# Altium integrated library RFOUT DaughterBoard.IntLib: 20 symbols
Pins are listed as number, name and electrical type; pins without a type are passive.

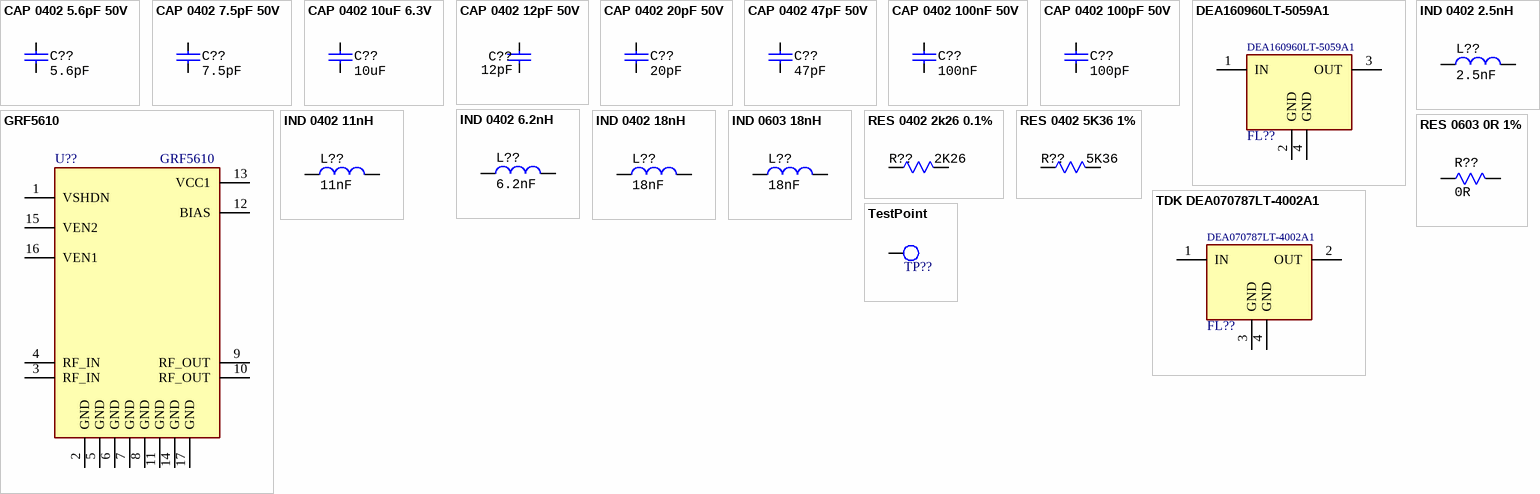
[diagram p0: symbols CAP 0402 5.6pF 50V to TestPoint]

## CAP 0402 5.6pF 50V
designator C??, comment 5.6pF
CAP CER 5.6pF 50V C0G 0402; Manufacturer: muRata; Manufacturer Part Number: GJM1555C1H5R6BB01D; Voltage Rating: 50V; Supplier: LCSC; Supplier Part Number: C161329; Capacitance: 5.6pF
footprint CAP Ceramic SMD 0402
pins: 1, 2

## CAP 0402 7.5pF 50V
designator C??, comment 7.5pF
CAP CER 7.5pF 50V C0G 0402; Manufacturer: muRata; Manufacturer Part Number: GJM1555C1H7R5BB01D; Tolerance: 0.1 pF; Voltage Rating: 50V; Supplier: LCSC; Supplier Part Number: C497526; Capacitance: 7.5pF
footprint CAP Ceramic SMD 0402
pins: 1, 2

## CAP 0402 10uF 6.3V
designator C??, comment 10uF
CAP CER 10uF 6.3V X6S; Manufacturer: muRata; Manufacturer Part Number: GRT155C80J106ME13D; Tolerance: 20%; Voltage Rating: 6.3V; Supplier: LCSC; Supplier Part Number: C20044558; Capacitance: 10uF
footprint CAP Ceramic SMD 0402
pins: 1, 2

## CAP 0402 12pF 50V
designator C??, comment 12pF
CAP CER 12pF 50V C0G 0402; Manufacturer: muRata; Manufacturer Part Number: GJM1555C1H120FB01D; Tolerance: 2%; Voltage Rating: 50V; Supplier: LCSC; Supplier Part Number: C161304; Capacitance: 12pF
footprint CAP Ceramic SMD 0402
pins: 1, 2

## CAP 0402 20pF 50V
designator C??, comment 20pF
CAP CER 20pF 50V C0G 0402; Manufacturer: muRata; Manufacturer Part Number: GJM1555C1H200GB01D; Tolerance: 2%; Voltage Rating: 6.3V; Supplier: LCSC; Supplier Part Number: C882568; Capacitance: 20pF
footprint CAP Ceramic SMD 0402
pins: 1, 2

## CAP 0402 47pF 50V
designator C??, comment 47pF
CAP CER 47pF 50V C0G 0402; Manufacturer: muRata; Manufacturer Part Number: GJM1555C1H470GB01D; Tolerance: 2%; Voltage Rating: 50V; Supplier: LCSC; Supplier Part Number: C3843411; Capacitance: 47pF
footprint CAP Ceramic SMD 0402
pins: 1, 2

## CAP 0402 100nF 50V
designator C??, comment 100nF
CAP CER 100nF 50V X7R 0402; Manufacturer: muRata; Manufacturer Part Number: GCM155R71H104KE02D; Tolerance: 10%; Voltage Rating: 50V; Supplier: LCSC; Supplier Part Number: C85858; Capacitance: 100nF
footprint CAP Ceramic SMD 0402
pins: 1, 2

## CAP 0402 100pF 50V
designator C??, comment 100pF
CAP CER 100pF 50V C0G 0402; Manufacturer: muRata; Manufacturer Part Number: GRM1555C1H101JA01D; Tolerance: 5%; Voltage Rating: 50V; Supplier: LCSC; Supplier Part Number: C77177; Capacitance: 100pF
footprint CAP Ceramic SMD 0402
pins: 1, 2

## DEA160960LT-5059A1
designator FL??
Multilayer Low Pass Filter For 698 - 960 MHz; Manufacturer: TDK; Manufacturer Part Number: DEA160960LT-5059A1; Supplier: LCSC; Supplier Part Number: C695578
footprint DEA160960LT-5059A1
pins: 1 IN, 2 GND, 3 OUT, 4 GND

## GRF5610
designator U??
The GRF5610 is a high gain, two-stage InGaP HBT power amplifier designed to deliver excellent P1dB, ACLR and IM3 performance over the 860 to 928 MHz band. Its exceptional native linearity makes it an ideal choice for transmitter applications that typically do not employ digital predistortion correction schemes.; Manufacture: Guerrilla RF; Supplier Part Number: *; Manufacture Part Number: GRF5610; Supplier: *
footprint QFN50P300X300X80-17N
pins: 1 VSHDN, 2 GND, 3 RF_IN, 4 RF_IN, 5 GND, 6 GND, 7 GND, 8 GND, 9 RF_OUT, 10 RF_OUT, 11 GND, 12 BIAS, 13 VCC1, 14 GND, 15 VEN2, 16 VEN1, 17 GND

## IND 0402 2.5nH
designator L??, comment 2.5nF
FIXED IND 2.5nH 2.1A 30mΩ 0402; Manufacturer: muRata; Manufacturer Part Number: LQW15AN2N5G80D; Supplier: LCSC; Supplier Part Number: C412267
footprint IND SMD 0402
pins: 1, 2

## IND 0402 6.2nH
designator L??, comment 6.2nF
FIXED IND 6.2nH 700mA 90mΩ 0402; Manufacturer: muRata; Manufacturer Part Number: LQW15AN6N2C00D; Supplier: LCSC; Supplier Part Number: C113118
footprint IND SMD 0402
pins: 1, 2

## IND 0402 11nH
designator L??, comment 11nF
FIXED IND 11nH 1.4A 83mΩ 0402; Manufacturer: muRata; Manufacturer Part Number: LQW15AN11NG8ZD; Supplier: LCSC; Supplier Part Number: C2044108
footprint IND SMD 0402
pins: 1, 2

## IND 0402 18nH
designator L??, comment 18nF
900mA 18nH ±5% 120mΩ Wire-wound chip inductor 0402 Fixed Inductors RoHS; Manufacturer: Coilcraft; Manufacturer Part Number: 0402HP-18NXJRW; Supplier: LCSC; Supplier Part Number: C39084920
footprint IND SMD 0402HP
pins: 1, 2

## IND 0603 18nH
designator L??, comment 18nF
FIXED IND 18nH 1.4A 75mΩ 0603; Manufacturer: muRata; Manufacturer Part Number: LQW18AN18NG8ZD; Supplier: LCSC; Supplier Part Number: C1329352
footprint IND SMD 0603
pins: 1, 2

## RES 0402 2k26 0.1%
designator R??, comment 2K26
RES 2.26kΩ ±0.1% 62.5mW 0402; Manufacturer: YAGEO; Manufacturer Part Number: RT0402BRD072K26L; Supplier: LCSC; Resistance: 2K26; Tolerance: 0.1%; Supplier Part Number: C852697; Value: 2K26
footprint CAP Ceramic SMD 0402
pins: 1, 2

## RES 0402 5K36 1%
designator R??, comment 5K36
RES 5.36kΩ ±1% 100mW 0402; Manufacturer: PANASONIC; Manufacturer Part Number: ERJ2RKF5361X; Supplier: LCSC; Resistance: 5K36; Tolerance: 1%; Supplier Part Number: C3025674; Value: 5K36
footprint CAP Ceramic SMD 0402
pins: 1, 2

## RES 0603 0R 1%
designator R??, comment 0R
100mW Thick Film Resistors 75V ±5% 0Ω 0603 Chip Resistor - Surface Mount ROHS; Manufacturer: YAGEO; Manufacturer Part Number: RC0603JR-070RL; Supplier: LCSC; Supplier Part Number: C95177; Value: 0R
footprint RES SMD 0603
pins: 1, 2

## TDK DEA070787LT-4002A1
designator FL??, comment DEA070787LT-4002A1
Multilayer Low Pass Filter For 777 - 787MHz; Manufacturer: TDK; Manufacturer Part Number: DEA070787LT-4002A1; Supplier: LCSC; Supplier Part Number: C6601348
footprint DEA070787LT-4002A1
pins: 1 IN, 2 OUT, 3 GND, 4 GND

## TestPoint
designator TP??  (value not drawn)  (no BOM)
footprint TestPoint Surface 0.8mm
footprint TestPoint Surface 1.2mm
footprint TestPoint TH 1.6mm
footprint TestPoint Surface 1mm
pins: 1